# Altium schematic symbol library Schlib1.SchLib: 10 symbols
Pins are listed as number, name and electrical type; pins without a type are passive.

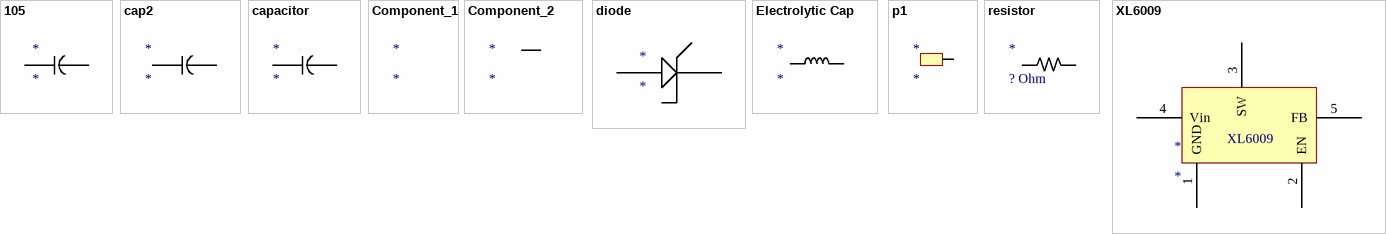
[diagram p0: symbols 105 to XL6009]

## 105
designator *
footprint PCBComponent_1
pins: 1, 2

## cap2
designator *
footprint Cin
pins: 1, 2

## capacitor
designator *
footprint PCBComponent_1 (Footprint not found)
pins: 1, 2

## Component_1
designator *

## Component_2
designator *

## diode
designator *
footprint 1N5824
pins: 1, 2

## Electrolytic Cap
designator *
footprint PCBComponent_1
pins: 1, 2

## p1
designator *
footprint P1
pins: 21

## resistor
designator *, comment ? Ohm
footprint PCBComponent_1
pins: 1, 2 1

## XL6009
designator *
footprint XL6009
pins: 1 GND, 2 EN, 3 SW, 4 Vin, 5 FB